# Altium schematic symbol library lib.SchLib: 480 symbols (part 1 of 6)
Pins are listed as number, name and electrical type; pins without a type are passive.

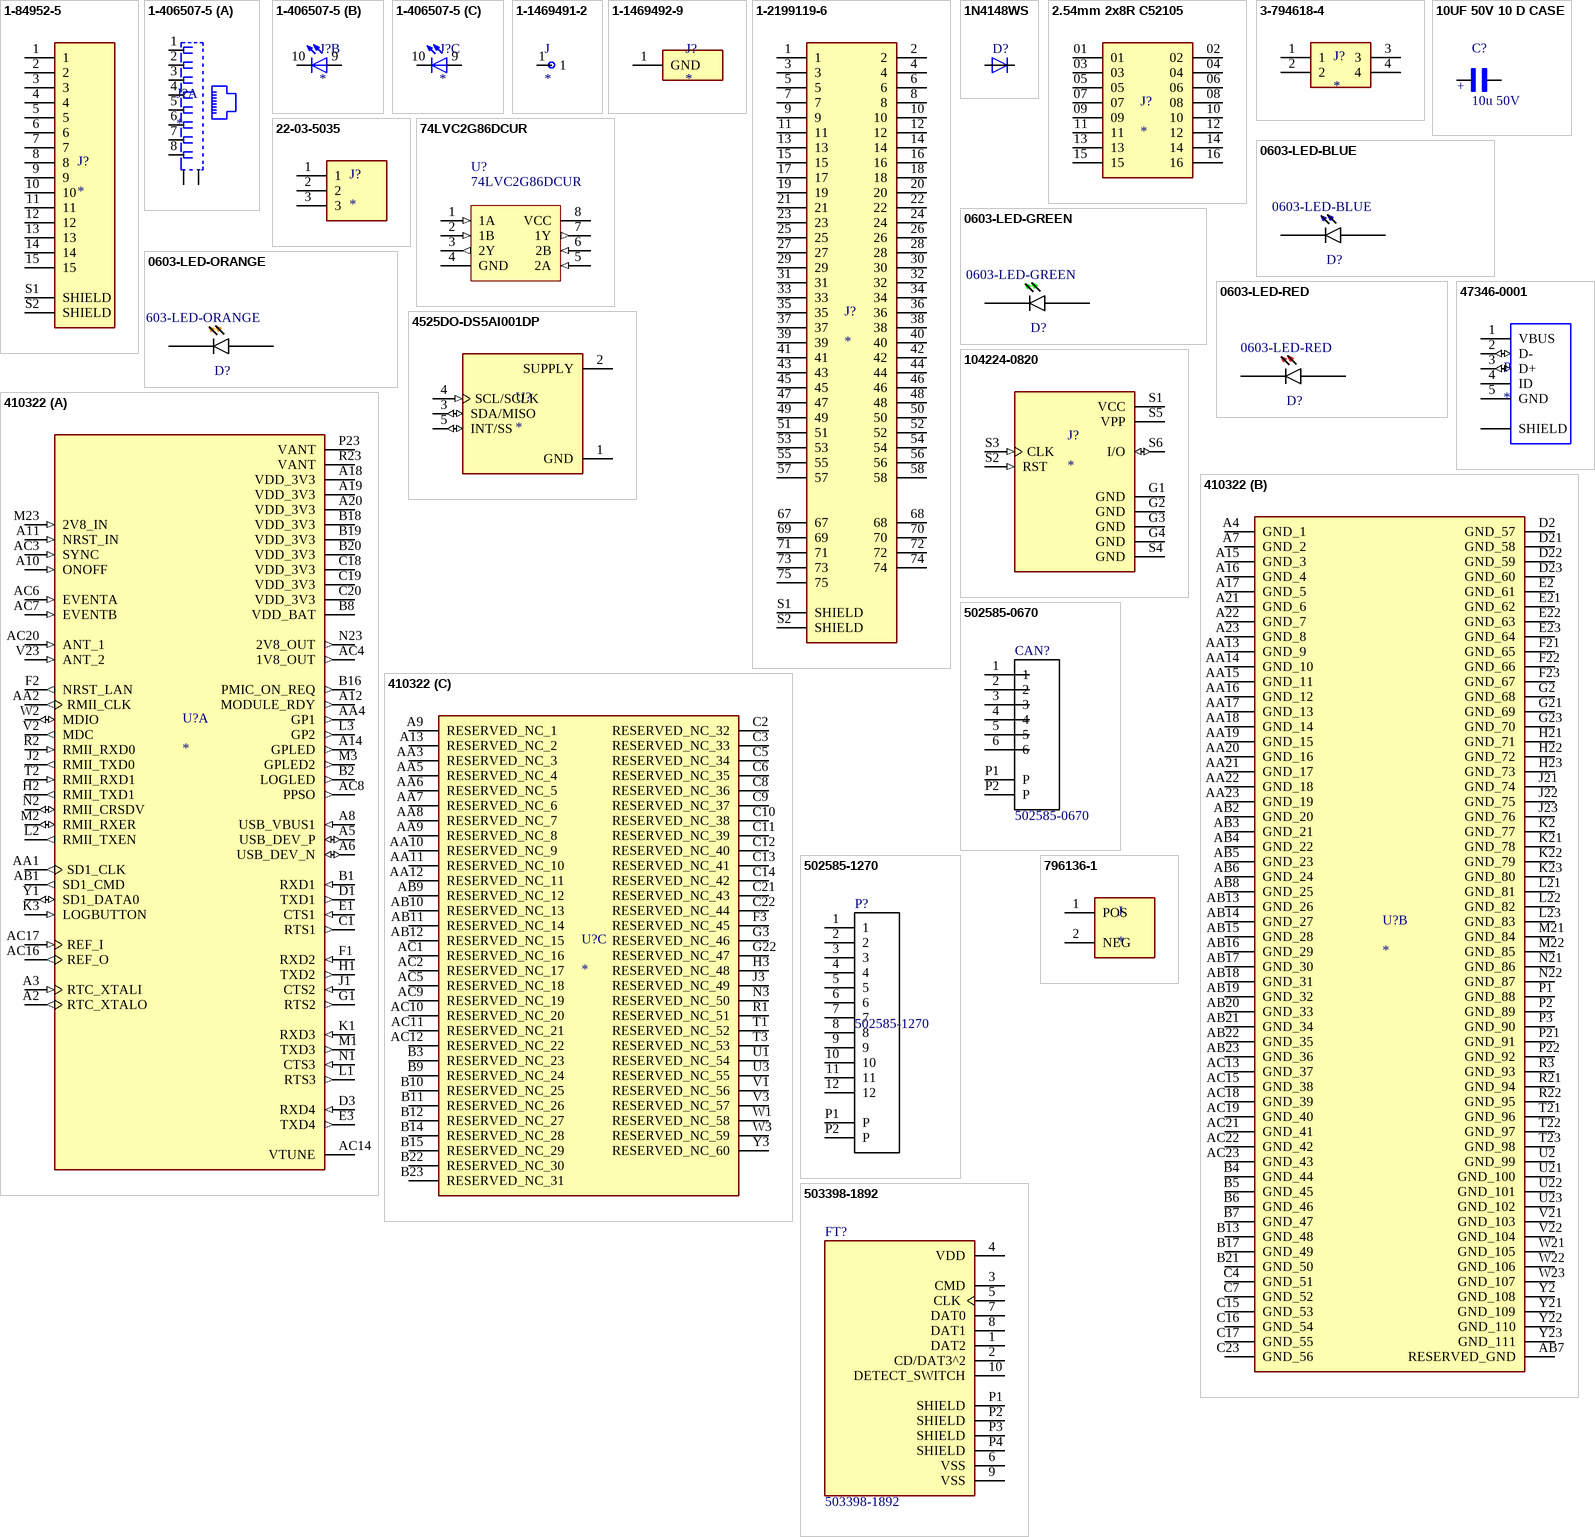
[diagram p0: symbols 1-84952-5 to 796136-1]

## 1-84952-5
designator J?
Conn FPC Connector SKT 15 POS 1mm Solder RA SMD T/R; MF: TE Connectivity; MP: 1-84952-5; Value: *; SnapEDA_Link: https://www.snapeda.com/parts/1-84952-5/TE+Connectivity+AMP+Connectors/view-part/?ref=snap; Purchase-URL: https://pricing.snapeda.com/search/part/1-84952-5/?ref=eda; EU_RoHS_Compliance: Compliant; Availability: In Stock; Price: None; Package: None; Check_prices: https://www.snapeda.com/parts/1-84952-5/TE+Connectivity+AMP+Connectors/view-part/?ref=eda
footprint TE_1-84952-5
pins: 1, 2, 3, 4, 5, 6, 7, 8, 9, 10, 11, 12, 13, 14, 15, S1 SHIELD, S2 SHIELD

## 1-406507-5
designator J?
Conn RJ-45 F 8 POS 1.02mm Solder RA Thru-Hole 12 Terminal 1 Port Cat 5 Box/Tray; MP: 1-406507-5; MF: TE Connectivity; Value: *; Package: None; SnapEDA_Link: https://www.snapeda.com/parts/1-406507-5/TE%20Connectivity%20AMP%20Connectors/view-part/1783904/?ref=snap
footprint TE_1-406507-5
part A pins: 1, 2, 3, 4, 5, 6, 7, 8, 13 S1, 14 S2
part B pins: 9 A, 10 C
part C pins: 9 A, 10 C

## 1-1469491-2
designator J
MULTIGIG RT GUIDEPIN, 9MM 2.60; MP: 1-1469491-2; MF: TE Connectivity; Product_Type: Accessory; SnapEDA_Link: https://www.snapeda.com/parts/1-1469491-2/TE%20Connectivity%20AMP%20Connectors/view-part/344015/?ref=snap; Digi-Key_Purchase_URL: https://www.digikey.com/product-detail/en/te-connectivity-amp-connectors/1-1469491-2/A99152-ND/1874998?utm_source=snapeda&utm_medium=aggregator&utm_campaign=symbol; Value: *; Package: None; Digi-Key_Part_Number: A99152-ND; TE_purchase_URL: https://www.te.com/usa-en/product-1-1469491-2.html?te_bu=Cor&te_type=disp&te_campaign=seda_glo_cor-seda-global-disp-prtnr-fy19-seda-model-bom-cta_sma-317_1&elqCampaignId=32493
footprint TE_1-1469491-2
pins: 1

## 1-1469492-9
designator J?
AMP Series Guide For Use With VITA 46 3U & 6U 9mm Daughtercard | TE Connectivity 1-1469492-9; Product_Type: Accessory; Number_of_Positions: 1; SnapEDA_Link: https://www.snapeda.com/parts/1-1469492-9/TE+Connectivity+AMP+Connectors/view-part/?ref=snap; Package: None; Value: *; MF: TE Connectivity; MP: 1-1469492-9; Check_prices: https://www.snapeda.com/parts/1-1469492-9/TE+Connectivity+AMP+Connectors/view-part/?ref=eda
footprint TE_1-1469492-9
pins: 1 GND (power)

## 1-2199119-6
designator J?
m.2 0.5pitch 3.2h Key m 30u Au, 1-2199119-6; MF: TE Connectivity; Package: None; MP: 1-2199119-6; Value: *; SnapEDA_Link: https://www.snapeda.com/parts/1-2199119-6/TE%20Connectivity%20AMP%20Connectors/view-part/2754475/?ref=snap; Price: None; Availability: Unavailable
footprint TE_1-2199119-6
pins: 1, 2, 3, 4, 5, 6, 7, 8, 9, 10, 11, 12, 13, 14, 15, 16, 17, 18, 19, 20, 21, 22, 23, 24, 25, 26, 27, 28, 29, 30, 31, 32, 33, 34, 35, 36, 37, 38, 39, 40, 41, 42, 43, 44, 45, 46, 47, 48, 49, 50, 51, 52, 53, 54, 55, 56, 57, 58, 67, 68, 69, 70, 71, 72, 73, 74, 75, S1 SHIELD, S2 SHIELD

## 1N4148WS
designator D?  (value not drawn)
Diode Standard 75V 150mA Surface Mount SOD-323F; MF: ON Semiconductor; MP: 1N4148WS; SnapEDA_Link: https://www.snapeda.com/parts/1N4148WS/ON%20Semiconductor/view-part/9223/?ref=snap; Value: *; Package: SOD-323 Fairchild Semiconductor; ChipDip_Link: https://www.chipdip.ru/product/1n4148ws-4; HelpURL: https://static.chipdip.ru/lib/008/DOC003008079.pdf
footprint SOD323 (SOD, 2-Leads, Body 1.25x2.50mm, IPC Medium Density)
pins: 1 A, 2 C

## 2.54mm 2x8R C52105
designator J?
MF: BOOMELE; MP: C52105; Package: None; Value: *; HelpURL: https://item.szlcsc.com/53119.html
footprint 2.54mm 2x8R
pins: 01, 02, 03, 04, 05, 06, 07, 08, 09, 10, 11, 12, 13, 14, 15, 16

## 3-794618-4
designator J?
Wire-To-Board Connector, Right Angle, Micro Mate-N-Lok Series, Through Hole, Header, 4, 3 Mm; MF: TE Connectivity; MP: 3-794618-4; SnapEDA_Link: https://www.snapeda.com/parts/3-794618-4/TE%20Connectivity%20AMP%20Connectors/view-part/2550141/?ref=snap; Value: *; Package: None; ChipDip_Link: https://www.chipdip.ru/product/tyco-3-794618-4; HelpURL: https://www.chipdip.ru/product/tyco-3-794618-4
footprint TE_3-794618-4
pins: 1, 2, 3, 4

## 10UF 50V 10 D CASE
designator C?  value 10u 50V  (hidden comment: 10UF 50V 10 D CASE)
10UF 50V 10 D CASE, танталовый SMD конденсатор 10 мкф х 50в типD 10%; SnapEDA_Link: https://www.snapeda.com/parts/T543D106K050AHW100/KEMET/view-part/?ref=search&t=cap%20tant%2050v%2010uf; ChipDip_Link: https://www.chipdip.ru/product0/8082817496; HelpURL: https://static.chipdip.ru/lib/074/DOC000074919.pdf
footprint CAPPM7343X310N
pins: 1, 2
text: +

## 22-03-5035
designator J?
Connector Header position; MF: Molex; Package: QFP-208 Molex; Value: *; MP: 22-03-5035; SnapEDA_Link: https://www.snapeda.com/parts/22-03-5035/Molex/view-part/451887/?ref=snap
footprint MOLEX_22-03-5035
pins: 1, 2, 3

## 74LVC2G86DCUR
designator U?
74LVC Series 5.5 V Surface Mount Dual 2-Input EXCLUSIVE-OR Gate - VSSOP-8; ChipDip_Link: https://www.chipdip.ru/product/sn74lvc2g86dcur-xor-gate-dual-2-in-cmos; HelpURL: https://static.chipdip.ru/lib/910/DOC012910607.pdf
footprint DCU(SM-8)
pins: 1 1A (in), 2 1B (in), 3 2Y (out), 4 GND, 5 2A (in), 6 2B (in), 7 1Y (out), 8 VCC

## 0603-LED-BLUE
designator D?
LED IrLED Chip LED 2-Pin SMD T/R; MP: LTST-S270TBKT or  LTST-C194TBKT or LTST-C191TBKT or  SML-D12D1WT86; Package: 0603 Lite-On; SnapEDA_Link: https://www.snapeda.com/parts/LTE-C1906R-14/Lite-On%20Inc./view-part/?ref=snap; Value: *; Type: SMD
footprint *LEDM1608X80_LTE-C1906R-14(Primary)
pins: A, C

## 0603-LED-GREEN
designator D?
Green 571nm LED Indication - Discrete 2V 0603 (1608 Metric); MP: LTST-C191KGKT or SML-D12D1WT86 or LTST-C190KGKT; Type: SMD; Package: 0603 Lite-On; SnapEDA_Link: https://www.snapeda.com/parts/LTST-C190KGKT/Lite-On%20Inc./view-part/?ref=search&t=0603%20LED%20GREEN; Value: *
footprint *LEDM1608X80_LTE-C1906R-14(Primary)
pins: A, C

## 0603-LED-ORANGE
designator D?
Orange 605nm LED Indication - Discrete 2.2V 0603 (1608 Metric); MP: SML-D12D1WT86 or LTST-C194KFKT; Type: SMD; Package: 0603 Lite-On; SnapEDA_Link: https://www.snapeda.com/parts/SML-D12D1WT86/Rohm/view-part/?ref=search&t=0603%20LED%20orange; Value: *
footprint *LEDM1608X80_LTE-C1906R-14(Primary)
pins: A, C

## 0603-LED-RED
designator D?
Red 620nm LED Indication - Discrete 2.2V 0603 (1608 Metric); MP: LTST-C194KRKT or SML-D12U1WT86; Type: SMD; Package: 0603 Lite-On; SnapEDA_Link: https://www.snapeda.com/parts/LTE-C1906R-14/Lite-On%20Inc./view-part/?ref=snap; Value: *
footprint *LEDM1608X80_LTE-C1906R-14(Primary)
pins: A, C

## 4525DO-DS5AI001DP
designator U?
MS4515DO Series 1 PSI _6.89 kPa_ Â±0.25% PCB Mounted Digital Output Transducer; MF: TE Connectivity; MP: 4525DO-DS5AI001DP; Value: *; TE_purchase_URL: https://www.te.com/usa-en/product-4525DO-DS5AI001DP.html?te_bu=Cor&te_type=disp&te_campaign=seda_glo_cor-seda-global-disp-prtnr-fy19-seda-model-bom-cta_sma-317_1&elqCampaignId=32493; Package: DIP-8 TE Connectivity; Availability: Unavailable; SnapEDA_Link: https://www.snapeda.com/parts/4525DO-DS5AI001DP/TE%20Connectivity%20ALCOSWITCH%20Switches/view-part/1270003/?ref=snap; Price: None
footprint TE_4525DO-DS5AI001DP
pins: 1 GND (power), 2 SUPPLY (power), 3 SDA/MISO (io), 4 SCL/SCLK (in), 5 INT/SS (io)

## 47346-0001
designator P
USB - micro B USB 2.0 Receptacle Connector 5 Position Surface Mount, Right Angle; MF: Molex; MP: 47346-0001; Value: *; SnapEDA_Link: https://www.snapeda.com/parts/47346-0001/Molex/view-part/53503/?ref=snap; Package: None; ChipDip_Link: https://www.chipdip.ru/product/molex-47346-0001; HelpURL: https://static.chipdip.ru/lib/002/DOC001002744.pdf
footprint MOLEX_47346-0001
pins: 1 VBUS (power), 2 D- (io), 3 D+ (io), 4 ID, 5 GND (power), SH1 SHIELD, SH2 SHIELD, SH3 SHIELD, SH4 SHIELD, SH5 SHIELD, SH6 SHIELD

## 104224-0820
designator J?
6 Position Card Connector NANO SIM Surface Mount, Right Angle Gold; MP: 104224-0820; MF: Molex; Value: *; SnapEDA_Link: https://www.snapeda.com/parts/104224-0820/Molex/view-part/?ref=snap; Purchase-URL: https://pricing.snapeda.com/search/part/104224-0820/?ref=eda; Check_prices: https://www.snapeda.com/parts/104224-0820/Molex/view-part/?ref=eda; Availability: In Stock; Price: None; Package: None
footprint MOLEX_104224-0820
pins: G1 GND (power), G2 GND (power), G3 GND (power), G4 GND (power), S1 VCC (power), S2 RST (in), S3 CLK (in), S4 GND (power), S5 VPP (power), S6 I/O (io)

## 410322
designator U?
series RF Receiver BeiDou, Galileo, GLONASS, GNSS, GPS - - - -; MF: Septentrio Inc.; MP: 410322; SnapEDA_Link: https://www.snapeda.com/parts/410322/Septentrio+Inc./view-part/?ref=snap; Package: None; Value: *; Check_prices: https://www.snapeda.com/parts/410322/Septentrio+Inc./view-part/?ref=eda
footprint LGA239C127P23X23_3100X3100X417N
part A pins: A2 RTC_XTALO (out), A3 RTC_XTALI (in), A5 USB_DEV_P (io), A6 USB_DEV_N (io), A8 USB_VBUS1 (in), A10 ONOFF (in), A11 NRST_IN (in), A12 MODULE_RDY (out), A14 GPLED (out), A18 VDD_3V3 (power), A19 VDD_3V3 (power), A20 VDD_3V3 (power), AA1 SD1_CLK (out), AA2 RMII_CLK (out), AA4 GP1 (out), AB1 SD1_CMD (out), AC3 SYNC (in), AC4 1V8_OUT (out), AC6 EVENTA (in), AC7 EVENTB (in), AC8 PPSO (out), AC14 VTUNE, AC16 REF_O (out), AC17 REF_I (in), AC20 ANT_1 (in), B1 RXD1 (in), B2 LOGLED (out), B8 VDD_BAT (power), B16 PMIC_ON_REQ (out), B18 VDD_3V3 (power), B19 VDD_3V3 (power), B20 VDD_3V3 (power), C1 RTS1 (out), C18 VDD_3V3 (power), C19 VDD_3V3 (power), C20 VDD_3V3 (power), D1 TXD1 (out), D3 RXD4 (in), E1 CTS1 (in), E3 TXD4 (out), F1 RXD2 (in), F2 NRST_LAN (out), G1 RTS2 (out), H1 TXD2 (out), H2 RMII_TXD1 (out), J1 CTS2 (in), J2 RMII_TXD0 (out), K1 RXD3 (in), K3 LOGBUTTON (in), L1 RTS3 (out), L2 RMII_TXEN (out), L3 GP2 (out), M1 TXD3 (out), M2 RMII_RXER (io), M3 GPLED2 (out), M23 2V8_IN (in), N1 CTS3 (in), N2 RMII_CRSDV (io), N23 2V8_OUT (out), P23 VANT (power), R2 RMII_RXD0 (in), R23 VANT (power), T2 RMII_RXD1 (in), V2 MDC (out), V23 ANT_2 (in), W2 MDIO (io), Y1 SD1_DATA0 (io)
part B pins: A4 GND_1 (power), A7 GND_2 (power), A15 GND_3 (power), A16 GND_4 (power), A17 GND_5 (power), A21 GND_6 (power), A22 GND_7 (power), A23 GND_8 (power), AA13 GND_9 (power), AA14 GND_10 (power), AA15 GND_11 (power), AA16 GND_12 (power), AA17 GND_13 (power), AA18 GND_14 (power), AA19 GND_15 (power), AA20 GND_16 (power), AA21 GND_17 (power), AA22 GND_18 (power), AA23 GND_19 (power), AB2 GND_20 (power), AB3 GND_21 (power), AB4 GND_22 (power), AB5 GND_23 (power), AB6 GND_24 (power), AB7 RESERVED_GND, AB8 GND_25 (power), AB13 GND_26 (power), AB14 GND_27 (power), AB15 GND_28 (power), AB16 GND_29 (power), AB17 GND_30 (power), AB18 GND_31 (power), AB19 GND_32 (power), AB20 GND_33 (power), AB21 GND_34 (power), AB22 GND_35 (power), AB23 GND_36 (power), AC13 GND_37 (power), AC15 GND_38 (power), AC18 GND_39 (power), AC19 GND_40 (power), AC21 GND_41 (power), AC22 GND_42 (power), AC23 GND_43 (power), B4 GND_44 (power), B5 GND_45 (power), B6 GND_46 (power), B7 GND_47 (power), B13 GND_48 (power), B17 GND_49 (power), B21 GND_50 (power), C4 GND_51 (power), C7 GND_52 (power), C15 GND_53 (power), C16 GND_54 (power), C17 GND_55 (power), C23 GND_56 (power), D2 GND_57 (power), D21 GND_58 (power), D22 GND_59 (power), D23 GND_60 (power), E2 GND_61 (power), E21 GND_62 (power), E22 GND_63 (power), E23 GND_64 (power), F21 GND_65 (power), F22 GND_66 (power), F23 GND_67 (power), G2 GND_68 (power), G21 GND_69 (power), G23 GND_70 (power), H21 GND_71 (power), H22 GND_72 (power), H23 GND_73 (power), J21 GND_74 (power), J22 GND_75 (power), J23 GND_76 (power), K2 GND_77 (power), K21 GND_78 (power), K22 GND_79 (power), K23 GND_80 (power), L21 GND_81 (power), L22 GND_82 (power), L23 GND_83 (power), M21 GND_84 (power), M22 GND_85 (power), N21 GND_86 (power), N22 GND_87 (power), P1 GND_88 (power), P2 GND_89 (power), P3 GND_90 (power), P21 GND_91 (power), P22 GND_92 (power), R3 GND_93 (power), R21 GND_94 (power), R22 GND_95 (power), T21 GND_96 (power), T22 GND_97 (power), T23 GND_98 (power), U2 GND_99 (power), U21 GND_100 (power), U22 GND_101 (power), U23 GND_102 (power), V21 GND_103 (power), V22 GND_104 (power), W21 GND_105 (power), W22 GND_106 (power), W23 GND_107 (power), Y2 GND_108 (power), Y21 GND_109 (power), Y22 GND_110 (power), Y23 GND_111 (power)
part C pins: A9 RESERVED_NC_1, A13 RESERVED_NC_2, AA3 RESERVED_NC_3, AA5 RESERVED_NC_4, AA6 RESERVED_NC_5, AA7 RESERVED_NC_6, AA8 RESERVED_NC_7, AA9 RESERVED_NC_8, AA10 RESERVED_NC_9, AA11 RESERVED_NC_10, AA12 RESERVED_NC_11, AB9 RESERVED_NC_12, AB10 RESERVED_NC_13, AB11 RESERVED_NC_14, AB12 RESERVED_NC_15, AC1 RESERVED_NC_16, AC2 RESERVED_NC_17, AC5 RESERVED_NC_18, AC9 RESERVED_NC_19, AC10 RESERVED_NC_20, AC11 RESERVED_NC_21, AC12 RESERVED_NC_22, B3 RESERVED_NC_23, B9 RESERVED_NC_24, B10 RESERVED_NC_25, B11 RESERVED_NC_26, B12 RESERVED_NC_27, B14 RESERVED_NC_28, B15 RESERVED_NC_29, B22 RESERVED_NC_30, B23 RESERVED_NC_31, C2 RESERVED_NC_32, C3 RESERVED_NC_33, C5 RESERVED_NC_34, C6 RESERVED_NC_35, C8 RESERVED_NC_36, C9 RESERVED_NC_37, C10 RESERVED_NC_38, C11 RESERVED_NC_39, C12 RESERVED_NC_40, C13 RESERVED_NC_41, C14 RESERVED_NC_42, C21 RESERVED_NC_43, C22 RESERVED_NC_44, F3 RESERVED_NC_45, G3 RESERVED_NC_46, G22 RESERVED_NC_47, H3 RESERVED_NC_48, J3 RESERVED_NC_49, N3 RESERVED_NC_50, R1 RESERVED_NC_51, T1 RESERVED_NC_52, T3 RESERVED_NC_53, U1 RESERVED_NC_54, U3 RESERVED_NC_55, V1 RESERVED_NC_56, V3 RESERVED_NC_57, W1 RESERVED_NC_58, W3 RESERVED_NC_59, Y3 RESERVED_NC_60

## 502585-0670
designator CAN?
1.50mm Pitch, CLIK-Mate PCB Receptacle, Single Row, Surface Mount, Right-Angle, Tin Plating, Positive Lock, 6 Circuits, Natural; MF: Molex; System: Connector; MP: 502585-0670; Package: None; SnapEDA_Link: https://www.snapeda.com/parts/502494-0670/Molex/view-part/?ref=snap; Value: *
footprint MOLEX_502585-0670
pins: 1, 2, 3, 4, 5, 6, P1 P, P2 P

## 502585-1270
designator P?
1.50mm Pitch, CLIK-Mate PCB Receptacle, Single Row, Surface Mount, Right-Angle, Tin Plating, Positive Lock, 12 Circuits, Natural; MP: 502494-0670; MF: Molex; Package: None; SnapEDA_Link: https://www.snapeda.com/parts/502494-0670/Molex/view-part/?ref=snap; Value: *
footprint MOLEX_5025851270
pins: 1, 2, 3, 4, 5, 6, 7, 8, 9, 10, 11, 12, P1 P, P2 P

## 503398-1892
designator FT?
9 _8 + 1_ Position Card Connector microSDâ„¢ Surface Mount, Right Angle Gold; MP: 5033981892; MF: Molex; SnapEDA_Link: https://www.snapeda.com/parts/5033981892/Molex/view-part/1614473/?ref=snap; Value: *; Package: None; ChipDip_Link: https://www.chipdip.ru/product0/8001892532; HelpURL: https://static.chipdip.ru/lib/855/DOC011855439.pdf
footprint MOLEX_503398-1892
pins: 1 DAT2, 2 CD/DAT3^2, 3 CMD, 4 VDD (power), 5 CLK, 6 VSS (power), 7 DAT0, 8 DAT1, 9 VSS (power), 10 DETECT_SWITCH, P1 SHIELD, P2 SHIELD, P3 SHIELD, P4 SHIELD

## 796136-1
designator J
BATTERY HOLDER; No. of Batteries:1; Terminal Type:Surface Mount; For Use With:CR2032 Batteries; Accessory Type:Battery Holder; Battery Size Code:2032; MF: TE Connectivity; MP: 796136-1; Package: None; Value: *; SnapEDA_Link: https://www.snapeda.com/parts/796136-1/TE%20Connectivity%20AMP%20Connectors/view-part/761452/?ref=snap; ChipDip_Link: https://www.chipdip.ru/product1/8001790650; HelpURL: https://www.chipdip.ru/product1/8001790650
footprint TE_796136-1
pins: 1 POS, 2 NEG

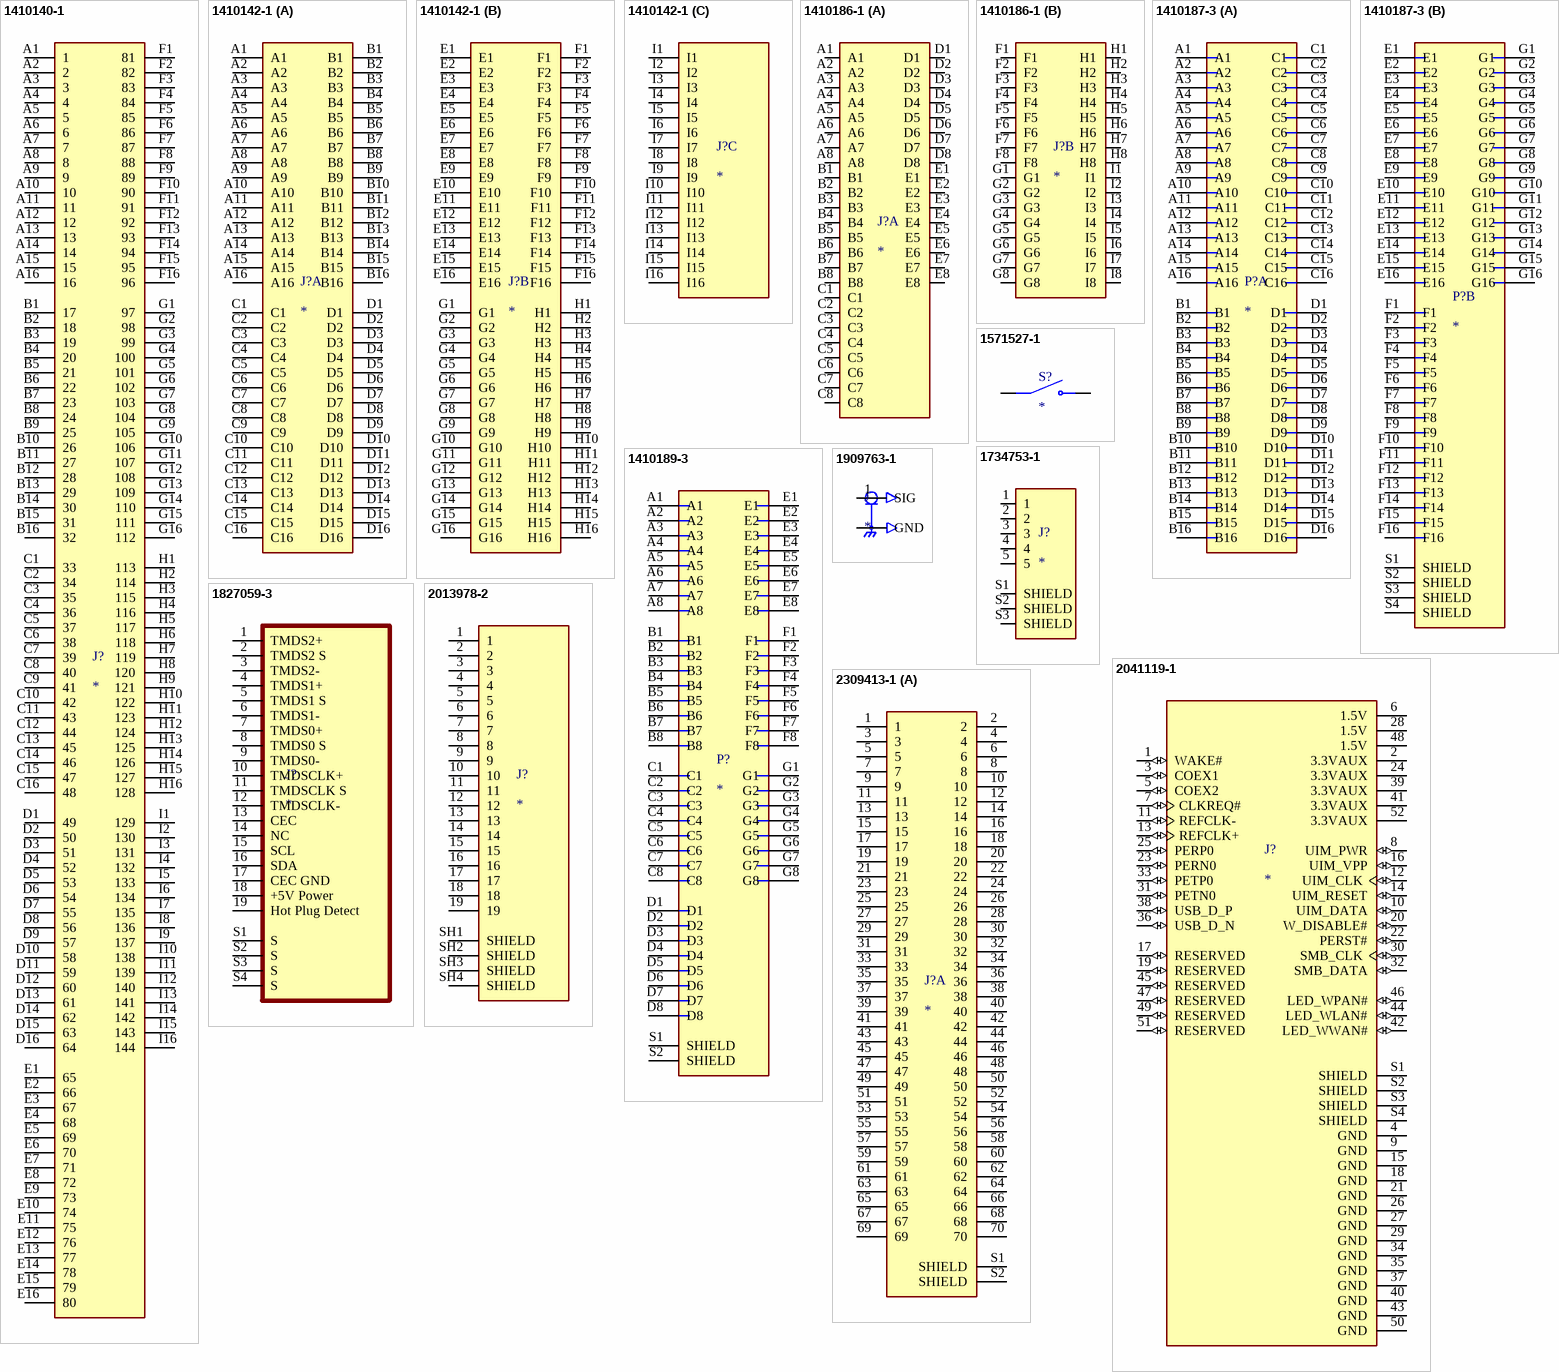
[diagram p1: symbols 1410140-1 to 2309413-1]

## 1410140-1
designator J?
Conn Backplane RCP 144 POS 1.8mm Press Fit ST Thru-Hole VITA 46/VITA 41 Tube; MF: TE Connectivity; MP: 1410140-1; Value: *; Package: None; Price: None; Availability: Unavailable; SnapEDA_Link: https://www.snapeda.com/parts/1410140-1/TE%20Connectivity%20AMP%20Connectors/view-part/1114709/?ref=snap
footprint CONN_1410140-1
pins: A1 1, A2 2, A3 3, A4 4, A5 5, A6 6, A7 7, A8 8, A9 9, A10 10, A11 11, A12 12, A13 13, A14 14, A15 15, A16 16, B1 17, B2 18, B3 19, B4 20, B5 21, B6 22, B7 23, B8 24, B9 25, B10 26, B11 27, B12 28, B13 29, B14 30, B15 31, B16 32, C1 33, C2 34, C3 35, C4 36, C5 37, C6 38, C7 39, C8 40, C9 41, C10 42, C11 43, C12 44, C13 45, C14 46, C15 47, C16 48, D1 49, D2 50, D3 51, D4 52, D5 53, D6 54, D7 55, D8 56, D9 57, D10 58, D11 59, D12 60, D13 61, D14 62, D15 63, D16 64, E1 65, E2 66, E3 67, E4 68, E5 69, E6 70, E7 71, E8 72, E9 73, E10 74, E11 75, E12 76, E13 77, E14 78, E15 79, E16 80, F1 81, F2 82, F3 83, F4 84, F5 85, F6 86, F7 87, F8 88, F9 89, F10 90, F11 91, F12 92, F13 93, F14 94, F15 95, F16 96, G1 97, G2 98, G3 99, G4 100, G5 101, G6 102, G7 103, G8 104, G9 105, G10 106, G11 107, G12 108, G13 109, G14 110, G15 111, G16 112, H1 113, H2 114, H3 115, H4 116, H5 117, H6 118, H7 119, H8 120, H9 121, H10 122, H11 123, H12 124, H13 125, H14 126, H15 127, H16 128, I1 129, I2 130, I3 131, I4 132, I5 133, I6 134, I7 135, I8 136, I9 137, I10 138, I11 139, I12 140, I13 141, I14 142, I15 143, I16 144

## 1410142-1
designator J?
MULTIGIG: 144 Position 0.8 mm Pitch VITA 41/46 Right End Backplane Receptacle; MP: 1410142-1; MF: TE Connectivity; Price: None; Value: *; Package: None; SnapEDA_Link: https://www.snapeda.com/parts/1410142-1/TE%20Connectivity%20AMP%20Connectors/view-part/465797/?ref=snap; Availability: Unavailable
footprint TE_1410142-1
part A pins: A1, A2, A3, A4, A5, A6, A7, A8, A9, A10, A11, A12, A13, A14, A15, A16, B1, B2, B3, B4, B5, B6, B7, B8, B9, B10, B11, B12, B13, B14, B15, B16, C1, C2, C3, C4, C5, C6, C7, C8, C9, C10, C11, C12, C13, C14, C15, C16, D1, D2, D3, D4, D5, D6, D7, D8, D9, D10, D11, D12, D13, D14, D15, D16
part B pins: E1, E2, E3, E4, E5, E6, E7, E8, E9, E10, E11, E12, E13, E14, E15, E16, F1, F2, F3, F4, F5, F6, F7, F8, F9, F10, F11, F12, F13, F14, F15, F16, G1, G2, G3, G4, G5, G6, G7, G8, G9, G10, G11, G12, G13, G14, G15, G16, H1, H2, H3, H4, H5, H6, H7, H8, H9, H10, H11, H12, H13, H14, H15, H16
part C pins: I1, I2, I3, I4, I5, I6, I7, I8, I9, I10, I11, I12, I13, I14, I15, I16

## 1410186-1
designator J?
Connector Receptacle, Female Blade Sockets Through Hole Black VITA 41/46, Half, Left End; MF: TE Connectivity; MP: 1410186-1; Package: None; Value: *; Availability: Unavailable; SnapEDA_Link: https://www.snapeda.com/parts/1410186-1/TE%20Connectivity%20AMP%20Connectors/view-part/1826293/?ref=snap; Price: None
footprint TE_1410186-1
part A pins: A1, A2, A3, A4, A5, A6, A7, A8, B1, B2, B3, B4, B5, B6, B7, B8, C1, C2, C3, C4, C5, C6, C7, C8, D1, D2, D3, D4, D5, D6, D7, D8, E1, E2, E3, E4, E5, E6, E7, E8
part B pins: F1, F2, F3, F4, F5, F6, F7, F8, G1, G2, G3, G4, G5, G6, G7, G8, H1, H2, H3, H4, H5, H6, H7, H8, I1, I2, I3, I4, I5, I6, I7, I8

## 1410187-3
designator P?
Conn Daughter Card PL 112 POS 1.8mm Press Fit RA Thru-Hole VITA 46 Tube; MP: 1410187-3; MF: {'manufacturer': 'TE Connectivity'}; Availability: Unavailable; Value: *; Price: None; Package: None
footprint TE_1410187-3
part A pins: A1, A2, A3, A4, A5, A6, A7, A8, A9, A10, A11, A12, A13, A14, A15, A16, B1, B2, B3, B4, B5, B6, B7, B8, B9, B10, B11, B12, B13, B14, B15, B16, C1, C2, C3, C4, C5, C6, C7, C8, C9, C10, C11, C12, C13, C14, C15, C16, D1, D2, D3, D4, D5, D6, D7, D8, D9, D10, D11, D12, D13, D14, D15, D16
part B pins: E1, E2, E3, E4, E5, E6, E7, E8, E9, E10, E11, E12, E13, E14, E15, E16, F1, F2, F3, F4, F5, F6, F7, F8, F9, F10, F11, F12, F13, F14, F15, F16, G1, G2, G3, G4, G5, G6, G7, G8, G9, G10, G11, G12, G13, G14, G15, G16, S1 SHIELD, S2 SHIELD, S3 SHIELD, S4 SHIELD

## 1410189-3
designator P?
Conn Daughter Card PL 56 POS 1.8mm Press Fit RA Thru-Hole VITA 46 Tube; MP: 1410189-3; MF: {'manufacturer': 'TE Connectivity'}; Availability: Unavailable; Package: None; Value: *; Price: None
footprint TE_1410189-3
pins: A1, A2, A3, A4, A5, A6, A7, A8, B1, B2, B3, B4, B5, B6, B7, B8, C1, C2, C3, C4, C5, C6, C7, C8, D1, D2, D3, D4, D5, D6, D7, D8, E1, E2, E3, E4, E5, E6, E7, E8, F1, F2, F3, F4, F5, F6, F7, F8, G1, G2, G3, G4, G5, G6, G7, G8, S1 SHIELD, S2 SHIELD

## 1571527-1
designator S?
Switch Tactile OFF _ON_ Round Button Gull Wing 0.05A 12VDC 0.98N SMD Bulk; MP: 1571527-1; MF: TE Connectivity; SnapEDA_Link: https://www.snapeda.com/parts/1571527-1/TE%20Connectivity/view-part/244428/?ref=snap; Package: SMD-6 Omron Electronics; Value: *
footprint SW_1571527-1
pins: 1 COM, 2 COM, 3 NO, 4 NO

## 1734753-1
designator J?
Conn Mini USB 2.0 Type B RCP 5 POS 0.8mm Solder ST Thru-Hole 5 Terminal 1 Port Box/Tray; MP: 1734753-1; MF: TE Connectivity; Package: None; Value: *; SnapEDA_Link: https://www.snapeda.com/parts/1734753-1/TE%20Connectivity%20AMP%20Connectors/view-part/699915/?ref=snap
footprint CONN_1734753-1
pins: 1, 2, 3, 4, 5, S1 SHIELD, S2 SHIELD, S3 SHIELD

## 1827059-3
designator J?
EMBOSS PACKAGE HDMI CONN SMT NO-FLANGE T; MF: TE Connectivity; MP: 1827059-3; Value: *; Package: None; SnapEDA_Link: https://www.snapeda.com/parts/1827059-3/TE%20Connectivity%20AMP%20Connectors/view-part/1316486/?ref=snap; HelpURL: https://static.chipdip.ru/lib/281/DOC000281587.pdf; ChipDip_Link: https://www.chipdip.ru/product/hdmi-19r
footprint TE_1827059-3
pins: 1 TMDS2+, 2 TMDS2 S, 3 TMDS2-, 4 TMDS1+, 5 TMDS1 S, 6 TMDS1-, 7 TMDS0+, 8 TMDS0 S, 9 TMDS0-, 10 TMDSCLK+, 11 TMDSCLK S, 12 TMDSCLK-, 13 CEC, 14 NC, 15 SCL, 16 SDA, 17 CEC GND, 18 +5V Power, 19 Hot Plug Detect, S1 S, S2 S, S3 S, S4 S

## 1909763-1
designator J
Conn Coaxial PL 50Ohm Solder ST SMD Gold Over Nickel T/R; MP: 1909763-1; MF: TE Connectivity; SnapEDA_Link: https://www.snapeda.com/parts/1909763-1/TE%20Connectivity%20AMP%20Connectors/view-part/473568/?ref=snap; Value: *; Package: None; ChipDip_Link: https://www.chipdip.ru/product1/8001775012; HelpURL: https://static6.arrow.com/aropdfconversion/4c7c0ae0d8af9cba0a94878fe69330a102c56b4b/eng_cd_1909763_b.pdf
footprint TE_1909763-1 (Footprint not found)
pins: 1 SIG, 2 GND, 3 GND

## 2013978-2
designator J?
Conn HDMI RCP 19 POS 0.4mm Solder RA SMD 19 Terminal 1 Port Embossed T/R; MF: TE Connectivity; MP: 2013978-2; SnapEDA_Link: https://www.snapeda.com/parts/2013978-2/TE+Connectivity+AMP+Connectors/view-part/?ref=snap; Package: None; Value: *; EU_RoHS_Compliance: Compliant; Check_prices: https://www.snapeda.com/parts/2013978-2/TE+Connectivity+AMP+Connectors/view-part/?ref=eda; HelpURL: https://lcsc.com/product-detail/HDMI-Connectors_TE-Connectivity-2013978-2_C573682.html?s_z=n_2013978
footprint TE_2013978-2
pins: 1, 2, 3, 4, 5, 6, 7, 8, 9, 10, 11, 12, 13, 14, 15, 16, 17, 18, 19, SH1 SHIELD, SH2 SHIELD, SH3 SHIELD, SH4 SHIELD

## 2041119-1
designator J?
Conn Mini PCI Express Card Edge SKT 52 POS Solder RA SMD T/R; MP: 2041119-1; MF: TE Connectivity; Package: None; SnapEDA_Link: https://www.snapeda.com/parts/2041119-1/TE%20Connectivity%20AMP%20Connectors/view-part/804027/?ref=snap; Value: *; ChipDip_Link: https://www.chipdip.ru/product0/8002857720; HelpURL: https://www.chipdip.ru/product0/8002857720
footprint TE_2041119-1
pins: 1 WAKE# (io), 2 3.3VAUX (power), 3 COEX1 (io), 4 GND (power), 5 COEX2 (io), 6 1.5V (power), 7 CLKREQ# (io), 8 UIM_PWR (io), 9 GND (power), 10 UIM_DATA (io), 11 REFCLK- (io), 12 UIM_CLK (io), 13 REFCLK+ (io), 14 UIM_RESET (io), 15 GND (power), 16 UIM_VPP (io), 17 RESERVED (io), 18 GND (power), 19 RESERVED (io), 20 W_DISABLE# (io), 21 GND (power), 22 PERST# (io), 23 PERN0 (io), 24 3.3VAUX (power), 25 PERP0 (io), 26 GND (power), 27 GND (power), 28 1.5V (power), 29 GND (power), 30 SMB_CLK (io), 31 PETN0 (io), 32 SMB_DATA (io), 33 PETP0 (io), 34 GND (power), 35 GND (power), 36 USB_D_N (io), 37 GND (power), 38 USB_D_P (io), 39 3.3VAUX (power), 40 GND (power), 41 3.3VAUX (power), 42 LED_WWAN# (io), 43 GND (power), 44 LED_WLAN# (io), 45 RESERVED (io), 46 LED_WPAN# (io), 47 RESERVED (io), 48 1.5V (power), 49 RESERVED (io), 50 GND (power), 51 RESERVED (io), 52 3.3VAUX (power), S1 SHIELD (power), S2 SHIELD (power), S3 SHIELD (power), S4 SHIELD (power)

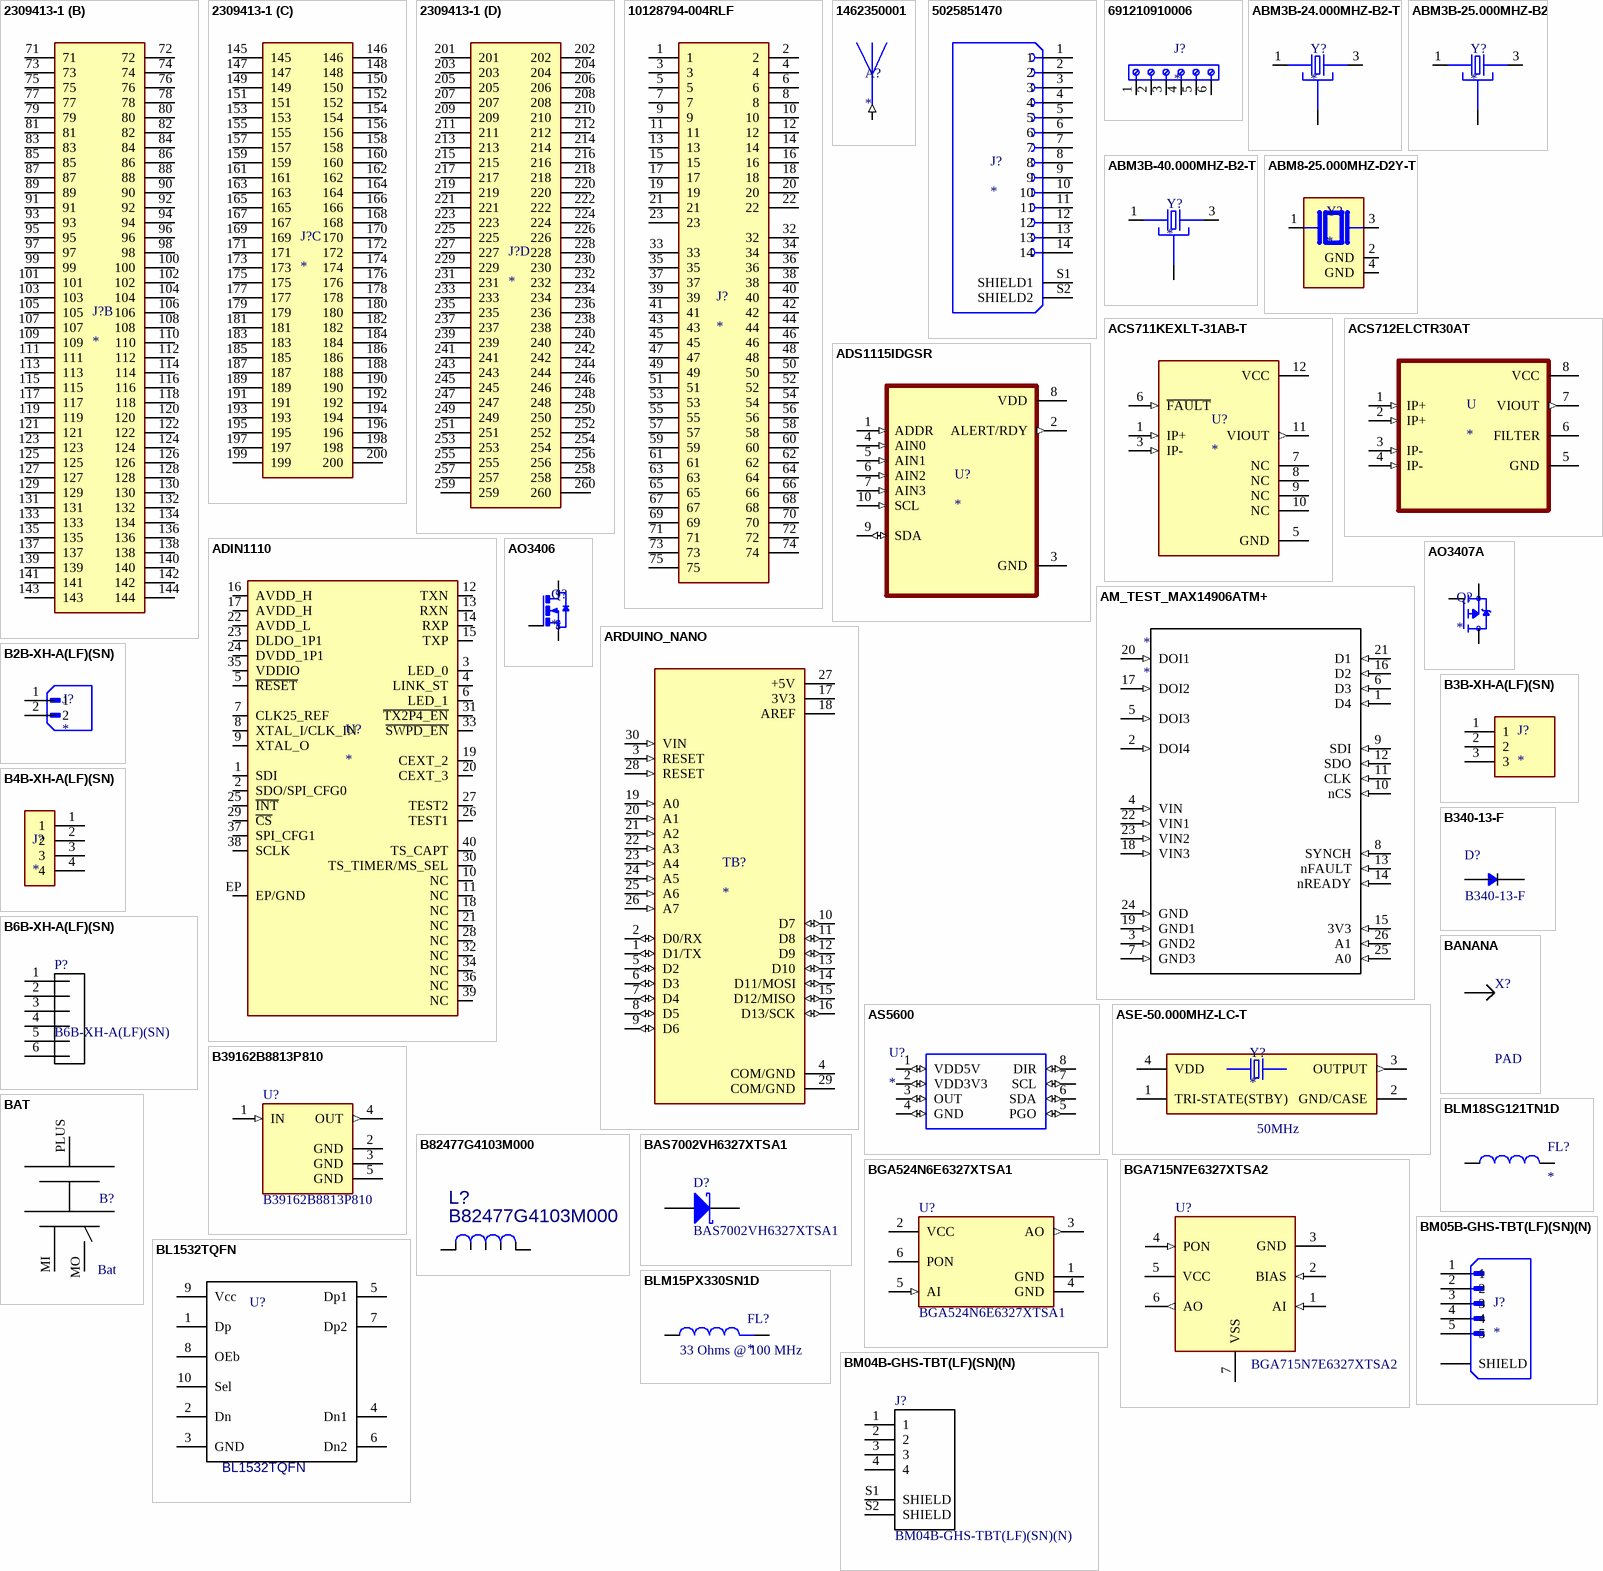
[diagram p2: symbols 2309413-1 to BM05B-GHS-TBT(LF)(SN)(N)]

## 2309413-1
designator J?
Conn DDR4 DIMM Socket SKT 260 POS 0.5mm Solder RA SMD T/R; MF: TE Connectivity; MP: 2309413-1; SnapEDA_Link: https://www.snapeda.com/parts/2309413-1/TE%20Connectivity%20AMP%20Connectors/view-part/2381121/?ref=snap; Value: *; Package: None; ChipDip_Link: https://www.chipdip.ru/product1/8002093903; HelpURL: https://www.chipdip.ru/product1/8002093903
footprint TE_2309413-1
part A pins: 1, 2, 3, 4, 5, 6, 7, 8, 9, 10, 11, 12, 13, 14, 15, 16, 17, 18, 19, 20, 21, 22, 23, 24, 25, 26, 27, 28, 29, 30, 31, 32, 33, 34, 35, 36, 37, 38, 39, 40, 41, 42, 43, 44, 45, 46, 47, 48, 49, 50, 51, 52, 53, 54, 55, 56, 57, 58, 59, 60, 61, 62, 63, 64, 65, 66, 67, 68, 69, 70, S1 SHIELD, S2 SHIELD
part B pins: 71, 72, 73, 74, 75, 76, 77, 78, 79, 80, 81, 82, 83, 84, 85, 86, 87, 88, 89, 90, 91, 92, 93, 94, 95, 96, 97, 98, 99, 100, 101, 102, 103, 104, 105, 106, 107, 108, 109, 110, 111, 112, 113, 114, 115, 116, 117, 118, 119, 120, 121, 122, 123, 124, 125, 126, 127, 128, 129, 130, 131, 132, 133, 134, 135, 136, 137, 138, 139, 140, 141, 142, 143, 144
part C pins: 145, 146, 147, 148, 149, 150, 151, 152, 153, 154, 155, 156, 157, 158, 159, 160, 161, 162, 163, 164, 165, 166, 167, 168, 169, 170, 171, 172, 173, 174, 175, 176, 177, 178, 179, 180, 181, 182, 183, 184, 185, 186, 187, 188, 189, 190, 191, 192, 193, 194, 195, 196, 197, 198, 199, 200
part D pins: 201, 202, 203, 204, 205, 206, 207, 208, 209, 210, 211, 212, 213, 214, 215, 216, 217, 218, 219, 220, 221, 222, 223, 224, 225, 226, 227, 228, 229, 230, 231, 232, 233, 234, 235, 236, 237, 238, 239, 240, 241, 242, 243, 244, 245, 246, 247, 248, 249, 250, 251, 252, 253, 254, 255, 256, 257, 258, 259, 260

## 10128794-004RLF
designator J?
PCIe M.2, Storage and Server Connector, H4.20mm, Key E, 0.38 um (15.000 uin) Gold Plating, 0.50mm Pitch; MF: Amphenol; MP: 10128794-004RLF; Package: None; Price: None; Check_prices: https://www.snapeda.com/parts/10128794-004RLF/Amphenol/view-part/?ref=eda; Value: *; SnapEDA_Link: https://www.snapeda.com/parts/10128794-004RLF/Amphenol/view-part/?ref=snap; Availability: In Stock; Purchase-URL: https://pricing.snapeda.com/search/part/10128794-004RLF/?ref=eda
footprint AMPHENOL_10128794-004RLF
pins: 1, 2, 3, 4, 5, 6, 7, 8, 9, 10, 11, 12, 13, 14, 15, 16, 17, 18, 19, 20, 21, 22, 23, 32, 33, 34, 35, 36, 37, 38, 39, 40, 41, 42, 43, 44, 45, 46, 47, 48, 49, 50, 51, 52, 53, 54, 55, 56, 57, 58, 59, 60, 61, 62, 63, 64, 65, 66, 67, 68, 69, 70, 71, 72, 73, 74, 75

## 1462350001
designator A?
1.575GHz GPS Molded RF Antenna 1.4dBi Solder Surface Mount; MP: 1462350001; MF: Molex; Availability: Unavailable; Package: None; SnapEDA_Link: https://www.snapeda.com/parts/1462350001/Molex/view-part/762367/?ref=snap; Value: *; Price: None
footprint ANT_1462350001
pins: 1 (in)

## 5025851470
designator J?
MP: 5025851470; Value: *; Price: None; Package: None; Availability: Unavailable
footprint MOLEX_5025851470
pins: 1, 2, 3, 4, 5, 6, 7, 8, 9, 10, 11, 12, 13, 14, S1 SHIELD1, S2 SHIELD2

## 691210910006
designator J?
TB, WIRE TO BRD, R/A, 6WAY, 18AWG;; MF: Wurth Electronics; MP: 691210910006; Value: *; Purchase-URL: https://pricing.snapeda.com/search/part/691210910006/?ref=eda; Package: None; SnapEDA_Link: https://www.snapeda.com/parts/691210910006/Wurth+Electronics+Inc/view-part/?ref=snap
footprint 691210910006
pins: 1, 2, 3, 4, 5, 6

## ABM3B-24.000MHZ-B2-T
designator Y?
24MHz Â±20ppm Crystal 18pF 50 Ohms 4-SMD, No Lead; MP: ABM3B-24.000MHZ-B2-T; MF: Abracon; Package: SMD-4 Abracon; SnapEDA_Link: https://www.snapeda.com/parts/ABM3B-24.000MHZ-B2-T/Abracon%20LLC/view-part/52595/?ref=snap; Value: *; ChipDip_Link: https://www.chipdip.ru/product/abm3b-24.000mhz-b2-t-3; HelpURL: https://static.chipdip.ru/lib/451/DOC012451459.pdf
footprint OSCSC500X320X110-4N
pins: 1, 2 GND, 3 2, 4 GND

## ABM3B-25.000MHZ-B2
designator Y?
25MHz Â±20ppm Crystal 18pF 50 Ohms 4-SMD, No Lead; MP: ABM3B-25.000MHZ-B2; MF: Abracon; Package: SMD-4 Abracon; SnapEDA_Link: https://www.snapeda.com/parts/ABM3B-24.000MHZ-B2-T/Abracon%20LLC/view-part/52595/?ref=snap; Value: *; ChipDip_Link: https://www.chipdip.ru/product/abm3b-24.000mhz-b2-t-3; HelpURL: https://static.chipdip.ru/lib/296/DOC012296483.pdf
footprint OSCSC500X320X110-4N
pins: 1, 2 GND, 3 2, 4 GND

## ABM3B-40.000MHZ-B2-T
designator Y?
40MHz Â±20ppm Crystal 18pF 50 Ohms 4-SMD, No Lead; MP: ABM3B-40.000MHZ-B2-T; MF: Abracon; SnapEDA_Link: https://www.snapeda.com/parts/ABM3B-40.000MHZ-B2-T/Abracon%20LLC/view-part/53057/?ref=snap; Package: SMD-4 Abracon; Value: *; ChipDip_Link: https://www.chipdip.ru/product1/8001997715; HelpURL: https://static.chipdip.ru/lib/451/DOC012451459.pdf
footprint OSCSC500X320X110-4N
pins: 1, 2 GND, 3 2, 4 GND

## ABM8-25.000MHZ-D2Y-T
designator Y?
Crystal 25MHz ±20ppm (Tol) ±30ppm (Stability) 18pF FUND 50Ohm 4-Pin Ultra Mini-CSMD T/R; MF: Abracon LLC; MP: ABM8-25.000MHZ-D2Y-T; SnapEDA_Link: https://www.snapeda.com/parts/ABM8-25.000MHZ-D2Y-T/Abracon/view-part/?ref=snap; Package: NON-STANDARD-4 ABRACON; Value: 25 MHz; Check_prices: https://www.snapeda.com/parts/ABM8-25.000MHZ-D2Y-T/Abracon/view-part/?ref=eda; HelpURL: *https://lcsc.com/product-detail/Ceramic-Resonators_Abracon-LLC-ABM8-25-000MHZ-D2Y-T_C179643.html
footprint XTAL_ABM8-25.000MHZ-D2Y-T
pins: 1, 2 GND (power), 3 2, 4 GND (power)

## ACS711KEXLT-31AB-T
designator U?
Current Sensor 31A 1 Channel Hall Effect, Open Loop Bidirectional 12-PowerWFQFN; MP: ACS711KEXLT-31AB-T; MF: Allegro MicroSystems LLC; Value: *; Package: QFN-12 Allegro MicroSystems LLC; Purchase-URL: https://pricing.snapeda.com/search/part/ACS711KEXLT-31AB-T/?ref=eda; Price: None; Availability: Good; SnapEDA_Link: https://www.snapeda.com/parts/ACS711KEXLT-31AB-T/Allegro%20MicroSystems%20LLC/view-part/482168/?ref=snap; HelpURL: https://datasheet.lcsc.com/lcsc/1811141123_Allegro-MicroSystems--LLC-ACS711KEXLT-31AB-T_C146412.pdf
footprint SENSOR_ACS711KEXLT-31AB-T
pins: 1 IP+ (in), 3 IP- (in), 5 GND (power), 6 ~{FAULT} (in), 7 NC, 8 NC, 9 NC, 10 NC, 11 VIOUT (out), 12 VCC (power)

## ACS712ELCTR30AT
designator U
Current Sensor 30A 1 Channel Hall Effect, Open Loop Bidirectional 8-SOIC _0.154, 3.90mm Width_; MF: Allegro MicroSystems LLC; MP: ACS712ELCTR30AT; SnapEDA_Link: https://www.snapeda.com/parts/ACS712ELCTR30AT/Allegro%20MicroSystems%20LLC/view-part/1228165/?ref=snap; Value: *; Package: SOIC-8 Allegro MicroSystems LLC; ChipDip_Link: https://www.chipdip.ru/product/acs712elctr-30a-t; HelpURL: https://static.chipdip.ru/lib/242/DOC000242949.pdf
footprint SOIC127P600X175-8N
pins: 1 IP+ (in), 2 IP+ (in), 3 IP- (in), 4 IP- (in), 5 GND (power), 6 FILTER, 7 VIOUT (out), 8 VCC (power)

## ADIN1110
designator U?
ADI Robust, Industrial, Low Power 10BASE-T1L Ethernet MAC-PHY; MF: Analog Devices; MP: ADIN1110; Package: None; Price: None; Value: *; SnapEDA_Link: https://www.snapeda.com/parts/ADIN1110/Analog+Devices/view-part/?ref=snap; Availability: Not in stock; Check_prices: https://www.snapeda.com/parts/ADIN1110/Analog+Devices/view-part/?ref=eda; HelpURL: https://nl.mouser.com/datasheet/2/609/adin1110-2295810.pdf
footprint LFCSP-40
pins: 1 SDI (io), 2 SDO/SPI_CFG0 (io), 3 LED_0 (io), 4 LINK_ST (io), 5 ~{RESET} (io), 6 LED_1 (io), 7 CLK25_REF (io), 8 XTAL_I/CLK_IN (io), 9 XTAL_O (io), 10 NC, 11 NC, 12 TXN (io), 13 RXN (io), 14 RXP (io), 15 TXP (io), 16 AVDD_H (io), 17 AVDD_H (io), 18 NC, 19 CEXT_2 (io), 20 CEXT_3 (io), 21 NC, 22 AVDD_L (io), 23 DLDO_1P1 (io), 24 DVDD_1P1 (io), 25 ~{INT} (io), 26 TEST1 (io), 27 TEST2 (io), 28 NC, 29 ~{CS} (io), 30 TS_TIMER/MS_SEL (io), 31 ~{TX2P4_EN} (io), 32 NC, 33 ~{SWPD_EN} (io), 34 NC, 35 VDDIO (io), 36 NC, 37 SPI_CFG1 (io), 38 SCLK (io), 39 NC, 40 TS_CAPT (io), EP EP/GND (io)

## ADS1115IDGSR
designator U?
16-Bit Analog-to-Digital Converter with Internal Reference; MF: AD; MP: ADS1115IDGSR; Package: None; Price: None; Availability: Unavailable; Value: *; HelpURL: https://cdn-shop.adafruit.com/datasheets/ads1115.pdf
footprint SOP50P490X110-10N
pins: 1 ADDR (in), 2 ALERT/RDY (out), 3 GND (power), 4 AIN0 (in), 5 AIN1 (in), 6 AIN2 (in), 7 AIN3 (in), 8 VDD (power), 9 SDA (io), 10 SCL (in)

## AM_TEST_MAX14906ATM+
designator *
footprint AM_TEST_MAX14906ATM+
pins: 1 D4 (in), 2 DOI4 (in), 3 GND2 (in), 4 VIN (in), 5 DOI3 (in), 6 D3 (in), 7 GND3 (in), 8 SYNCH (in), 9 SDI (in), 10 nCS (in), 11 CLK (in), 12 SDO (in), 13 nFAULT (in), 14 nREADY (in), 15 3V3 (in), 16 D2 (in), 17 DOI2 (in), 18 VIN3 (in), 19 GND1 (in), 20 DOI1 (in), 21 D1 (in), 22 VIN1 (in), 23 VIN2 (in), 24 GND (in), 25 A0 (in), 26 A1 (in)

## AO3406
designator Q?
N-Channel 30 V 3.6A (Ta) 1.4W (Ta) Surface Mount SOT-23-3; MF: AO; MP: AO3406; Package: SOT-23 ON Semiconductor; Value: *; SnapEDA_Link: https://www.snapeda.com/parts/BSS123/ON%20Semiconductor/view-part/2489351/?ref=snap; ChipDip_Link: https://www.chipdip.ru/product/bss123-fairchild; HelpURL: https://aosmd.com/sites/default/files/res/data_sheets/AO3406.pdf
footprint SOT23
pins: 1 G, 2 S, 3 D

## AO3407A
designator Q?
P-Channel 30V 4.3A _Ta_ 1.4W _Ta_ Surface Mount SOT-23-3L; MF: AO; MP: AO3407A; Value: *; SnapEDA_Link: https://www.snapeda.com/parts/AO3407A/Alpha%20%26%20Omega%20Semiconductor%20Inc./view-part/547767/?ref=snap; Price: None; Availability: Unavailable; Package: SOT-23 Alpha &amp; Omega Semiconductor
footprint SOT95P280X125-3N (Footprint not found)
pins: 1 G, 2 S, 3 D

## ARDUINO_NANO
designator TB?
ATSAMD21G18A Arduino Nano 33 IoT SAM D ARMÂ® CortexÂ®-M0+ MCU 32-Bit Embedded Evaluation Board; MP: ARDUINO NANO; Package: None; Value: *; MF: Arduino; SnapEDA_Link: https://www.snapeda.com/parts/ARDUINO%20NANO/Arduino/view-part/1128261/?ref=snap
footprint SHIELD_ARDUINO_NANO
pins: 1 D1/TX (io), 2 D0/RX (io), 3 RESET (in), 4 COM/GND (power), 5 D2 (io), 6 D3 (io), 7 D4 (io), 8 D5 (io), 9 D6 (io), 10 D7 (io), 11 D8 (io), 12 D9 (io), 13 D10 (io), 14 D11/MOSI (io), 15 D12/MISO (io), 16 D13/SCK (io), 17 3V3 (power), 18 AREF (power), 19 A0 (in), 20 A1 (in), 21 A2 (in), 22 A3 (in), 23 A4 (in), 24 A5 (in), 25 A6 (in), 26 A7 (in), 27 +5V (power), 28 RESET (in), 29 COM/GND (power), 30 VIN (in)

## AS5600
designator U?
Hall Effect Sensor Angle External Magnet, Not Included Gull Wing; MP: AS5600; MF: ams; Package: SOIC-8 ams; Availability: In Stock; SnapEDA_Link: https://www.snapeda.com/parts/AS5600-ASOT/ams/view-part/?ref=snap; Price: None; Check_prices: https://www.snapeda.com/parts/AS5600-ASOT/ams/view-part/?ref=eda; Value: *; Purchase-URL: https://pricing.snapeda.com/search/part/AS5600-ASOT/?ref=eda
footprint SOIC127P600X175-8N
pins: 1 VDD5V (io), 2 VDD3V3 (io), 3 OUT (io), 4 GND (io), 5 PGO (io), 6 SDA (io), 7 SCL (io), 8 DIR (io)

## ASE-50.000MHZ-LC-T
designator Y?  value 50MHz
50 MHz XO (Standard) CMOS Oscillator 3.3V Enable/Disable 4-SMD, No Lead; MF: abracon; MP: ASE-50.000MHZ-LC-T; Package: None; Price: None; Availability: Unavailable; HelpURL: https://lcsc.com/datasheet/lcsc_datasheet_2411272145_Abracon-LLC-ASE-50-000MHZ-LC-T_C596955.pdf
footprint XTAL_ASE-50.000MHZ-LC-T
pins: 1 TRI-STATE(STBY), 2 GND/CASE (power), 3 OUTPUT (out), 4 VDD (power)

## B2B-XH-A(LF)(SN)
designator J?
Connector Header Through Hole 2 position 0.098 (2.50mm); MF: JST Sales; MP: B2B-XH-A(LF)(SN); SnapEDA_Link: https://www.snapeda.com/parts/B2B-XH-A(LF)(SN)/JST/view-part/?ref=snap; Package: None; Value: *; Check_prices: https://www.snapeda.com/parts/B2B-XH-A(LF)(SN)/JST/view-part/?ref=eda
footprint JST_B2B-XH-A(LF)(SN)
pins: 1, 2

## B3B-XH-A(LF)(SN)
designator J?
Connector Header Through Hole 3 position 0.098 (2.50mm); MF: JST Sales; MP: B3B-XH-A(LF)(SN); Value: *; Package: None; SnapEDA_Link: https://www.snapeda.com/parts/B3B-XH-A(LF)(SN)/JST%20Sales%20America%20Inc./view-part/231271/?ref=snap; HelpURL: https://static.chipdip.ru/lib/060/DOC000060506.pdf
footprint JST_B3B-XH-A(LF)(SN)
pins: 1, 2, 3

## B4B-XH-A(LF)(SN)
designator J?
Connector Header Through Hole 4 position 0.098 (2.50mm); MF: JST Sales; MP: B4B-XH-A(LF)(SN); Purchase-URL: https://item.szlcsc.com/155727.html; SnapEDA_Link: https://www.snapeda.com/parts/B4B-XH-A(LF)(SN)/JST%20Sales%20America%20Inc./view-part/447494/?ref=snap; Value: *; Package: None; HelpURL: https://static.chipdip.ru/lib/060/DOC000060506.pdf; ChipDip_Link: https://www.chipdip.ru/product0/8004520548
footprint JST_B4B-XH-A(LF)(SN)
pins: 1, 2, 3, 4

## B6B-XH-A(LF)(SN)
designator P?
XH Series 6 Position 2.5 mm Through Hole Right Angle Press Fit Shrouded Header; MP: S4B-XH-A_LF__SN_; MF: JST Sales; Package: None; SnapEDA_Link: https://www.snapeda.com/parts/S4B-XH-A%28LF%29%28SN%29/JST%20Sales%20America%20Inc./view-part/?ref=snap; Value: *; HelpURL: https://static.chipdip.ru/lib/060/DOC000060506.pdf
footprint *JST_S6B-XH-A(LF)(SN)
footprint JST_B6B-XH-A(LF)(SN)
pins: 1, 2, 3, 4, 5, 6

## B340-13-F
designator D?
Schottky Diode, 3A, 40V, Smc; MF: Pericom; Package: DO-214AB-214 Pericom; MP: B340-13-F; SnapEDA_Link: https://www.snapeda.com/parts/B340-13-F/Pericom/view-part/?ref=snap; Value: *
footprint *DIO_B340-13-F_B340-13-F(Primary)
pins: A, C

## B39162B8813P810
designator U?
Frequency RF SAW Filter _Sound Acoustic Wave_ Bandwidth 5-SMD, No Lead; MF: Qualcomm _RF360; Package: SMD-5 EPCOS; Value: *; SnapEDA_Link: https://www.snapeda.com/parts/B39162B8813P810/Qualcomm%20%28RF360%20-%20A%20Qualcomm%20%26%20TDK%20Joint%20Venture%29/view-part/301261/?ref=snap; MP: B39162B8813P810; ChipDip_Link: https://www.chipdip.ru/product1/8008647307; HelpURL: https://www.chipdip.ru/product1/8003584693; Type: SMD
footprint FIL_B39162B9417K610
pins: 1 IN (in), 2 GND (power), 3 GND (power), 4 OUT (out), 5 GND (power)

## B82477G4103M000
designator L?
Value: B82477G4103M000
footprint IND_EPCOS
pins: 1, 2
1 alternate drawing of the same symbol

## BANANA
designator X?, comment PAD
Header 1; System: Connector; MF: Connfly electronic (Zhenqin); MP: PLS-3 (DS1021-1x3); Type: SMD; ChipDip_Link: https://www.chipdip.ru/product/pls-3; HelpURL: https://static.chipdip.ru/lib/227/DOC000227157.pdf
footprint BANANA FEMALE
pins: 1

## BAS7002VH6327XTSA1
designator D?
Rectifier Diode Schottky Si 0.07A Automotive 2-Pin SC-79 T/R; ChipDip_Link: https://www.chipdip.ru/product1/8006493445; HelpURL: https://static.chipdip.ru/lib/637/DOC011637804.pdf
footprint sod323f
simulation model SKYDIODE (Diode)
signal-integrity model D Schottky
pins: 1 A, 2 K

## BAT
designator B?, comment Bat
MP: XT60-M; MF: AMASS; Package: Package Analog Devices; SnapEDA_Link: https://www.snapeda.com/parts/XT60-M/AMASS/view-part/?ref=snap; Value: *
footprint BAT
pins: MI, MO, PLUS

## BGA524N6E6327XTSA1
designator U?
IC AMP GPS 1.55-1.615GHZ TSNP6-2; P1dB: -16dBm; Gain: 19.6dB; Operating Supply Current: 2.5mA; Noise Figure: 0.55dB; Number of Channels: 1; Mount: Surface Mount; Frequency: 1.615GHz; Number of Pins: 6; Lead Free: Lead Free; Packaging: Cut Tape; Package Quantity: 15000; Series: -; Halogen Free: Halogen Free; RoHS Compliant: Yes; Test Frequency: 1.615GHz; MP: BGA524N6E6327XTSA1
footprint FP-PG-TSNP-6-MFG
pins: 1 GND (power), 2 VCC (power), 3 AO (out), 4 GND (power), 5 AI (in), 6 PON (power)

## BGA715N7E6327XTSA2
designator U?
The BGA715N7 is a front-end low noise amplifier for Global Navigation Satellite Systems (GNSS) from 1550 MHz to 1615 MHz like GPS, GLONASS, Beidou, Galileo and others. The LNA provides 20 dB gain, 0.7 dB noise figure and high linearity performance in the application configuration. Current consumption is as low as 3.3 mA. The BGA715N7 is based upon Infineon Technologies B7HFM Silicon Germanium technology. It operates over a 1.5 V to 3.3 V supply range.; Package: TSNP-7-1 Infineon Technologies; SnapEDA_Link: https://www.snapeda.com/parts/BGA715N7E6327XTSA2/Infineon%20Technologies/view-part/521435/?ref=snap; MP: BGA715N7E6327XTSA2; Value: *; MF: Infineon Technologies; ChipDip_Link: https://www.chipdip.ru/product/bga-715n7-e6327-sige-ln-gnss-rf-amplifier; HelpURL: https://www.chipdip.ru/product/bga-715n7-e6327-sige-ln-gnss-rf-amplifier; Type: SMD
footprint AMP_BGA715N7E6327XTSA2
pins: 1 AI (in), 2 BIAS (in), 3 GND (power), 4 PON (in), 5 VCC (power), 6 AO (out), 7 VSS (power)

## BL1532TQFN
designator U?
BL(Shanghai Belling) BL1532TQFN; MF: BL(Shanghai Belling); Package: UTQFN1.8x1.4-10L; Type: SMD; ChipDip_Link: https://www.lcsc.com/product-detail/Analog-Switches-Multiplexers_BL-Shanghai-Belling-BL1532TQFN_C2909088.html?s_z=n_BL1532; HelpURL: https://www.lcsc.com/product-detail/Analog-Switches-Multiplexers_BL-Shanghai-Belling-BL1532TQFN_C2909088.html?s_z=n_BL1532; MP: BL1532TQFN
footprint UTQFN1.8x1.4-10L
pins: 1 Dp (power), 2 Dn, 3 GND, 4 Dn1 (power), 5 Dp1 (power), 6 Dn2 (power), 7 Dp2 (power), 8 OEb, 9 Vcc (power), 10 Sel

## BLM15PX330SN1D
designator FL?  value 33 Ohms @ 100 MHz
33 Ohms @ 100 MHz 1 Power Line Ferrite Bead 0402 (1005 Metric) 3A 22mOhm; MF: Murata Electronics; MP: BLM15PX330SN1D; SnapEDA_Link: https://www.snapeda.com/parts/BLM15PX330SN1D/Murata/view-part/?ref=snap; Package: 1005 Taiyo Yuden; Check_prices: https://www.snapeda.com/parts/BLM15PX330SN1D/Murata/view-part/?ref=eda
footprint BEADC1005X55N
pins: 1, 2

## BLM18SG121TN1D
designator FL?
120 Ohms @ 100MHz 1 Power Line Ferrite Bead 0603 (1608 Metric) 3A 25mOhm; MP: BLM18SG121TN1D; MF: Murata; DigiKey-Purchase-URL: https://snapeda.com/shop?store=DigiKey&id=270211; Availability: Good; Package: 1608 Murata; Value: *; Mouser-Purchase-URL: https://snapeda.com/shop?store=Mouser&id=270211; SnapEDA_Link: https://www.snapeda.com/parts/BLM18SG121TN1D/Murata/view-part/270211/?ref=snap; Price: None; Check_prices: https://www.snapeda.com/parts/BLM18SG121TN1D/Murata/view-part/270211/?ref=eda
footprint BEADC1608X65N
pins: 1, 2

## BM04B-GHS-TBT(LF)(SN)(N)
designator J?
Conn Shrouded Header HDR 4 POS 1.25mm Solder ST SMD Reel; MF: JST Sales; MP: BM04B-GHS-TBT_LF__SN__N_; SnapEDA_Link: https://www.snapeda.com/parts/BM04B-GHS-TBT%28LF%29%28SN%29%28N%29/JST%20Sales%20America%20Inc./view-part/?ref=snap; Package: None; Value: *
footprint *JST_BM04B-GHS-TBT(LF)(SN)(N)_BM04B-GHS-TBT(LF)(SN)(N)(Primary)
footprint JST_BM04B-GHS-holes
pins: 1, 2, 3, 4, S1 SHIELD, S2 SHIELD

## BM05B-GHS-TBT(LF)(SN)(N)
designator J?
Connector Header Surface Mount 5 position 0.049 (1.25mm); MF: JST Sales; MP: BM05B-GHS-TBT(LF)(SN)(N); Package: None; SnapEDA_Link: https://www.snapeda.com/parts/BM05B-GHS-TBT(LF)(SN)(N)/JST+Sales+America+Inc./view-part/?ref=snap; Check_prices: https://www.snapeda.com/parts/BM05B-GHS-TBT(LF)(SN)(N)/JST+Sales+America+Inc./view-part/?ref=eda; Purchase-URL: https://pricing.snapeda.com/search/part/BM05B-GHS-TBT(LF)(SN)(N)/?ref=eda; Digi-Key_Part_Number: 455-1581-2-ND; Value: *
footprint JST_BM05B-GHS-TBT(LF)(SN)(N)
pins: 1, 2, 3, 4, 5, S1 SHIELD, S2 SHIELD

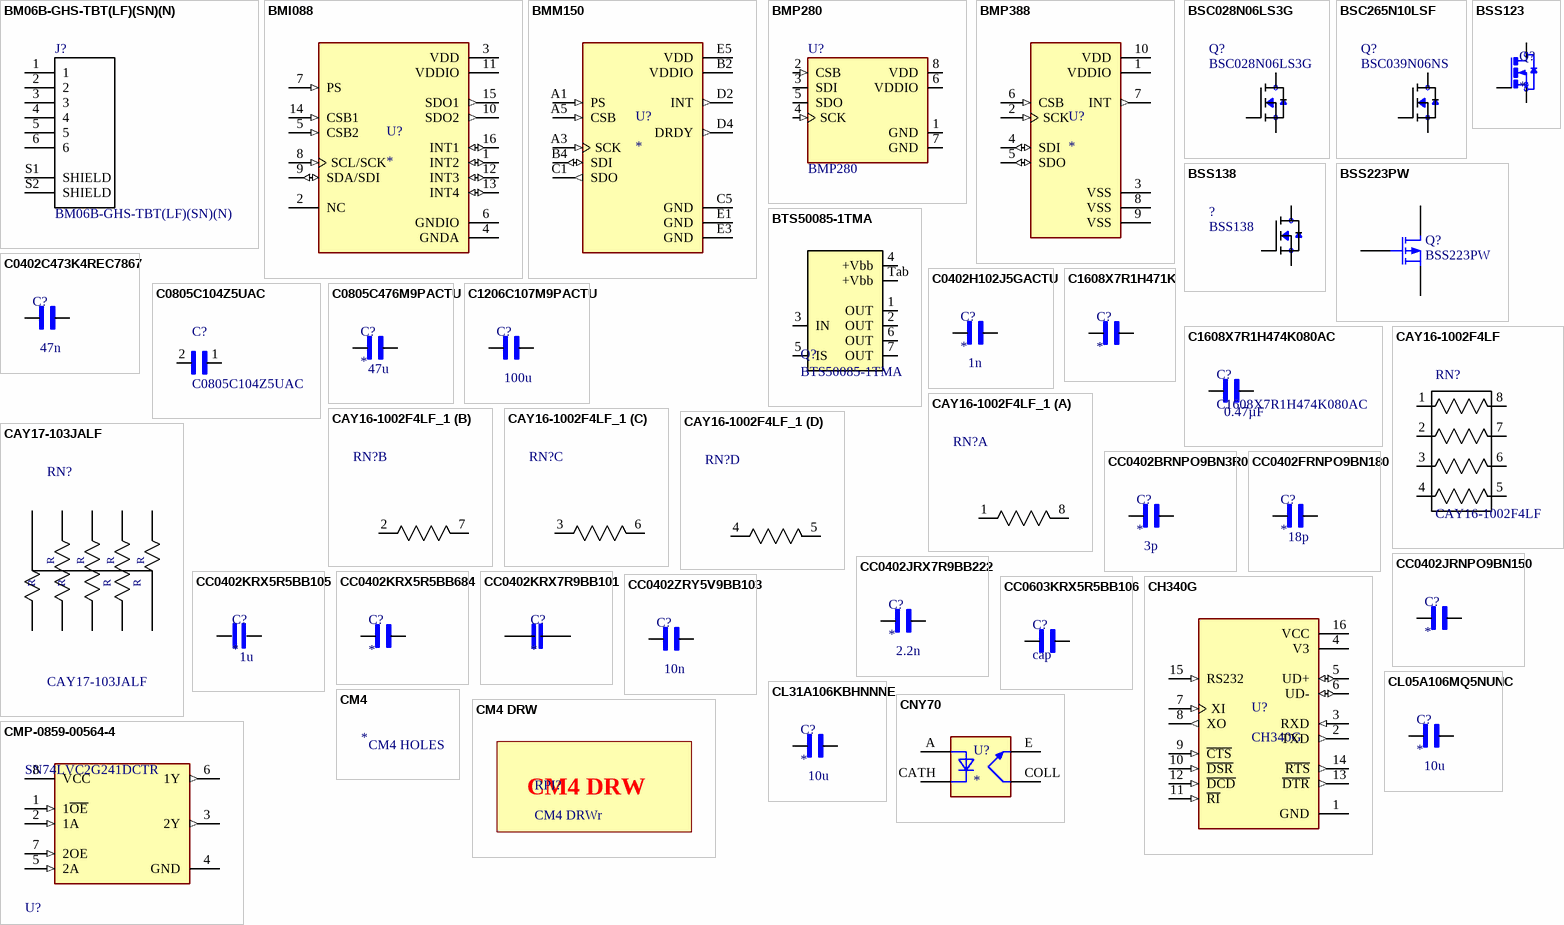
[diagram p3: symbols BM06B-GHS-TBT(LF)(SN)(N) to CNY70]

## BM06B-GHS-TBT(LF)(SN)(N)
designator J?
Conn Header Gh Top 6pos 1.25mm; MP: BM06B-GHS-TBT_LF__SN__N_; MF: JST Sales; Package: None; SnapEDA_Link: https://www.snapeda.com/parts/BM06B-GHS-TBT%28LF%29%28SN%29%28N%29/JST%20Sales%20America%20Inc./view-part/?ref=snap; Value: *
footprint *JST_BM06B-GHS-TBT(LF)(SN)(N)_BM06B-GHS-TBT(LF)(SN)(N)(Primary)
pins: 1, 2, 3, 4, 5, 6, S1 SHIELD, S2 SHIELD

## BMI088
designator U?
Accelerometer, Gyroscope, 6 Axis Sensor IÂ²C, SPI Output; MF: Bosch Sensortec; MP: BMI088; Package: VFLGA-16 Bosch Sensortec; Value: *; SnapEDA_Link: https://www.snapeda.com/parts/BMI088/Bosch%20Sensortec/view-part/2774026/?ref=snap; HelpURL: https://download.mikroe.com/documents/datasheets/BMI088_Datasheet.pdf
footprint PQFN50P450X300X100-16N
pins: 1 INT2 (io), 2 NC, 3 VDD (power), 4 GNDA (power), 5 CSB2 (in), 6 GNDIO (power), 7 PS (in), 8 SCL/SCK (in), 9 SDA/SDI (io), 10 SDO2 (out), 11 VDDIO (power), 12 INT3 (io), 13 INT4 (io), 14 CSB1 (in), 15 SDO1 (out), 16 INT1 (io)

## BMM150
designator U?
FlipCore, Hall Effect Sensor X, Y, Z Axis 12-WLCSP (1.56x1.56); MF: Bosch Sensortec; MP: BMM150; SnapEDA_Link: https://www.snapeda.com/parts/BMM150/Bosch/view-part/?ref=snap; Package: WLCSP-12 Bosch; Value: *; Check_prices: https://www.snapeda.com/parts/BMM150/Bosch/view-part/?ref=eda; HelpURL: https://www.bosch-sensortec.com/media/boschsensortec/downloads/datasheets/bst-bmm150-ds001.pdf
footprint XDCR_BMM150
pins: A1 PS (in), A3 SCK (in), A5 CSB (in), B2 VDDIO (power), B4 SDI (io), C1 SDO (out), C5 GND (power), D2 INT (out), D4 DRDY (out), E1 GND (power), E3 GND (power), E5 VDD (power)

## BMP280
designator U?
Pressure Sensor 4.35PSI ~ 15.95PSI _30kPa ~ 110kPa_ Absolute 16b 8-SMD; MF: Bosch; SnapEDA_Link: https://www.snapeda.com/parts/BMP280/Bosch%20Sensortec/view-part/1186631/?ref=snap; Package: SMD-8 Bosch Sensortec; MP: BMP280; Value: *; Type: SMD
footprint XDCR_BMP280
pins: 1 GND (power), 2 CSB (in), 3 SDI (io), 4 SCK (in), 5 SDO (io), 6 VDDIO (power), 7 GND (power), 8 VDD (power)

## BMP388
designator U?
Pressure Sensor 4.35PSI ~ 18.13PSI _30kPa ~ 125kPa_ Absolute 10-WFLGA; MP: BMP388; MF: Bosch Sensortec; Value: *; SnapEDA_Link: https://www.snapeda.com/parts/BMP388/Bosch%20Sensortec/view-part/2747857/?ref=snap; Package: WFLGA-10 Bosch Tools; HelpURL: https://www.mouser.com/pdfdocs/BST-BMP388-DS001-01.pdf; ChipDip_Link: https://www.chipdip.ru/product0/9000759511
footprint PQFN50P200X200X80-10N
pins: 1 VDDIO (power), 2 SCK (in), 3 VSS (power), 4 SDI (io), 5 SDO (io), 6 CSB (in), 7 INT (out), 8 VSS (power), 9 VSS (power), 10 VDD (power)

## BSC028N06LS3G
designator Q?
BSC028N06LS3G, MOSFET N-CHANNEL 60V 100A OPTIMOS TDSON8; SnapEDA_Link: https://www.snapeda.com/parts/BSC265N10LSFGATMA1/Samtec/view-part/?ref=search&t=BSC265N10LSF; Value: *; ChipDip_Link: https://www.chipdip.ru/product/bsc265n10lsf-g-mosfet-n-channel-100v-40a; HelpURL: https://ru.mouser.com/datasheet/2/196/Infineon_BSC028N06LS3_G_DataSheet_v02_03_EN-1226498.pdf
footprint TRANS_BSC100N06LS3GATMA1
pins: D, G, S

## BSC265N10LSF
designator Q?, comment BSC039N06NS
BSC265N10LSF G, MOSFET N-CHANNEL 100V 40A OPTIMOS TDSON8; SnapEDA_Link: https://www.snapeda.com/parts/BSC265N10LSFGATMA1/Samtec/view-part/?ref=search&t=BSC265N10LSF; Value: *; ChipDip_Link: https://www.chipdip.ru/product/bsc265n10lsf-g-mosfet-n-channel-100v-40a; HelpURL: https://static.chipdip.ru/lib/146/DOC004146491.pdf
footprint *TRANS_BSC039N06NS
pins: 1 S, 2 S, 3 S, 4 G, 5 D, 6 D, 7 D, 8 D, 9 D

## BSS123
designator Q?
N-Channel 100V 170mA _Ta_ 360mW _Ta_ Surface Mount SOT-23-3; MF: ON Semiconductor; MP: BSS123; Package: SOT-23 ON Semiconductor; Value: *; SnapEDA_Link: https://www.snapeda.com/parts/BSS123/ON%20Semiconductor/view-part/2489351/?ref=snap; ChipDip_Link: https://www.chipdip.ru/product/bss123-fairchild; HelpURL: https://static.chipdip.ru/lib/318/DOC000318893.pdf
footprint SOT23
pins: 1 G, 2 S, 3 D

## BSS138
designator ?
N-Channel 50V 220mA _Ta_ 360mW _Ta_ Surface Mount Die; MF: MICROSS/On Semiconductor; SnapEDA_Link: https://www.snapeda.com/parts/BSS138/MICROSS/On%20Semiconductor/view-part/2773844/?ref=snap; MP: BSS138; Package: TO-236-3 Micross; Value: *
footprint *BSS138_BSS138(Primary)
pins: D, G, S

## BSS223PW
designator Q?
P-Channel MOSFET; ChipDip_Link: https://www.chipdip.ru/product0/8931031590; HelpURL: https://www.infineon.com/dgdl/Infineon-BSS223PW-DS-v01_05-en.pdf?fileId=db3a3043321e49940132481523b6245f
footprint 2N7002-SOT323
simulation model PMOS (MOSFET-P)
pins: 1 D, 2 S, 3 G

## BTS50085-1TMA
designator Q?
MF: infineon; HelpURL: https://www.infineon.com/dgdl/Infineon-BTS50085-1TMA-DS-v01_00-EN.pdf?fileId=5546d4625a888733015aa435bccd114b; MP: BTS50085-1TMA
footprint PG-TO263-7-8
pins: 1 OUT, 2 OUT, 3 IN, 4 +Vbb, 5 IS, 6 OUT, 7 OUT, Tab +Vbb

## C0402C473K4REC7867
designator C?, comment value 47n  (hidden comment: cap)
MP: C0402C473K4REC7867; Package: None; Price: None; Availability: Unavailable
footprint CAPC1005X55N
pins: 1, 2

## C0402H102J5GACTU
designator C?  value 1n
CAPACITOR, NP0, 0402, 50V, 1NF; Capacitance:1000pF; Capacitance Tolerance:Â± 5%; Dielectric Characteristic:C0G / NP0; Voltage Rating:50V; Capacitor Case Style:0402; Operating Temperature Range:-55Â°C to +200Â°C; SVHC:No SVHC (19-Dec-2011); Capacitor Mounting:SMD; MP: C0402H102J5GACTU; Package: None; Price: None; Availability: Unavailable
footprint CAPC1005X55N
pins: 1, 2

## C0805C104Z5UAC
designator C?
SnapEDA_Link: https://www.snapeda.com/parts/C0805C104Z5UAC/KEMET/view-part/1804770/?ref=snap; Value: *
footprint *CAPC2012X88N
pins: 1, 2

## C0805C476M9PACTU
designator C?  value 47u
47 µF ±20% 6.3V Ceramic Capacitor X5R 0805 _2012 Metric_; MF: KEMET; MP: C0805C476M9PACTU; Package: 0805 Kemet; Digi-Key_Part_Number: 399-5506-1-ND; Digi-Key_Purchase_URL: https://www.digikey.com/product-detail/en/kemet/C0805C476M9PACTU/399-5506-1-ND/1950684?utm_source=snapeda&utm_medium=aggregator&utm_campaign=symbol; SnapEDA_Link: https://www.snapeda.com/parts/C0805C476M9PACTU/KEMET/view-part/417269/?ref=snap
footprint CAPC2012X88N
pins: 1, 2

## C1206C107M9PACTU
designator C?, comment value 100u  (hidden comment: cap)
100ÂµF Â±20% 6.3V Ceramic Capacitor X5R 1206 (3216 Metric); MP: C1206C107M9PACTU; MF: KEMET; Availability: Unavailable; Package: 1206 KEMET; Price: None; SnapEDA_Link: https://www.snapeda.com/parts/C1206C107M9PACTU/KEMET/view-part/609622/?ref=snap; BuyPart: https://www.snapeda.com/parts/C1206C107M9PACTU/KEMET/view-part/609622/?ref=eda
footprint CAPC3216X110N
pins: 1, 2

## C1608X7R1H471K
designator C?
470 pF Â±10% 50V Ceramic Capacitor X7R 0603 (1608 Metric); Value: 470 p; MF: TDK; MP: C1608X7R1H471K; SnapEDA_Link: https://www.snapeda.com/parts/C1608X7R1H471K/TDK/view-part/?ref=snap; Package: 0603 TDK; Check_prices: https://www.snapeda.com/parts/C1608X7R1H471K/TDK/view-part/?ref=eda; HelpURL: https://www.lcsc.com/product-detail/C695146.html?s_z=n_C1608X7R1H471K
footprint CAPC1608X95
pins: 1, 2

## C1608X7R1H474K080AC
designator C?  value 0.47µF
0.47µF ±10% 50V Ceramic Capacitor X7R 0603 _1608 Metric_; MF: TDK; Package: 0603 (1608) TDK; SnapEDA_Link: https://www.snapeda.com/parts/C1608X7R1H474K080AC/TDK/view-part/360155/?ref=snap; MP: C1608X7R1H474K080AC; ChipDip_Link: https://www.chipdip.ru/product0/8576565346
footprint CAPC1608X90N
pins: 1, 2